# EAGLE library part DIODESINC-DT1446-04V-7 (library EagleLibrary)
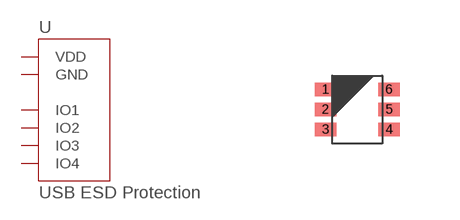
[diagram p43: symbol with the pads of DIODESINC-DT1446-04V-7; footprint DIODESINC-DT1446-04V-7]

Designator prefix U

## DIODESINC-DT1446-04V-7 (MFG: Diodes Incorporated; PN: DT1446-04V-7)  [DIODESINC-DT1446-04V-7]
1  IO1
2  GND
3  IO2
4  IO3
5  VDD
6  IO4

## Footprint DIODESINC-DT1446-04V-7 (pad centres in mm)
6-SOTFL, 0.50 mm pitch, 1.63 mm span, 1.60 X 1.18 X 0.60 mm body 6-pin SOTFL package with 0.50 mm pitch, 1.63 mm span with body size 1.60 X 1.18 X 0.60 mm
smd 0.546 x 0.337: 1 -0.796,0.5; 2 -0.796,0; 3 -0.796,-0.5; 4 0.796,-0.5; 5 0.796,0; 6 0.796,0.5